# EAGLE library part PUSB3AB6Z (library PUSB3AB6Z)
Nexperia PUSB3AB6Z, Hex-Element ESD Protection Diode, 7-Pin DFN2111 Source: Datasheet <https://assets.nexperia.com/documents/data-sheet/PUSB3AB6.pdf>
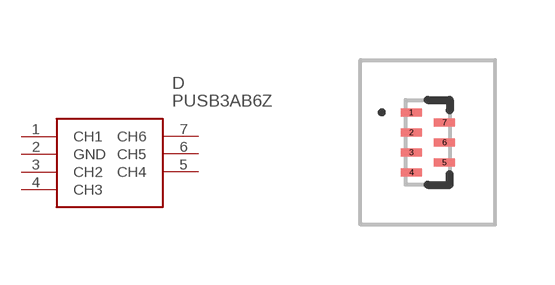
[diagram p0: symbol with the pads of PUSB3AB6Z; footprint PUSB3AB6Z]

Designator prefix D

## PUSB3AB6Z (Arrow_Part_Number: PUSB3AB6Z; Arrow_Price-Stock: https://www.arrow.com/en/products/pusb3ab6z/nexperia?region=nac; Description: Nexperia PUSB3AB6Z, Hex-Element ESD Protection Diode, 7-Pin DFN2111; Height: 0.5mm; Manufacturer_Name: Nexperia; Manufacturer_Part_Number: PUSB3AB6Z; Mouser_Part_Number: 771-PUSB3AB6Z; Mouser_Price-Stock: https://www.mouser.co.uk/ProductDetail/Nexperia/PUSB3AB6Z?qs=K2OaAKmNuLgoMk8bcuWLKw%3D%3D)  [PUSB3AB6Z]
1  CH1
2  GND
3  CH2
4  CH3
5  CH4
6  CH5
7  CH6

## Footprint PUSB3AB6Z (pad centres in mm)
SOT1358-1_2022-1
smd 0.53 x 0.2: 1 -0.415,0.75; 2 -0.415,0.25; 3 -0.415,-0.25; 4 -0.415,-0.75; 5 0.415,-0.5; 6 0.415,0; 7 0.415,0.5